# Altium schematic symbol library Schlib1.SchLib: 36 symbols (part 2 of 2)
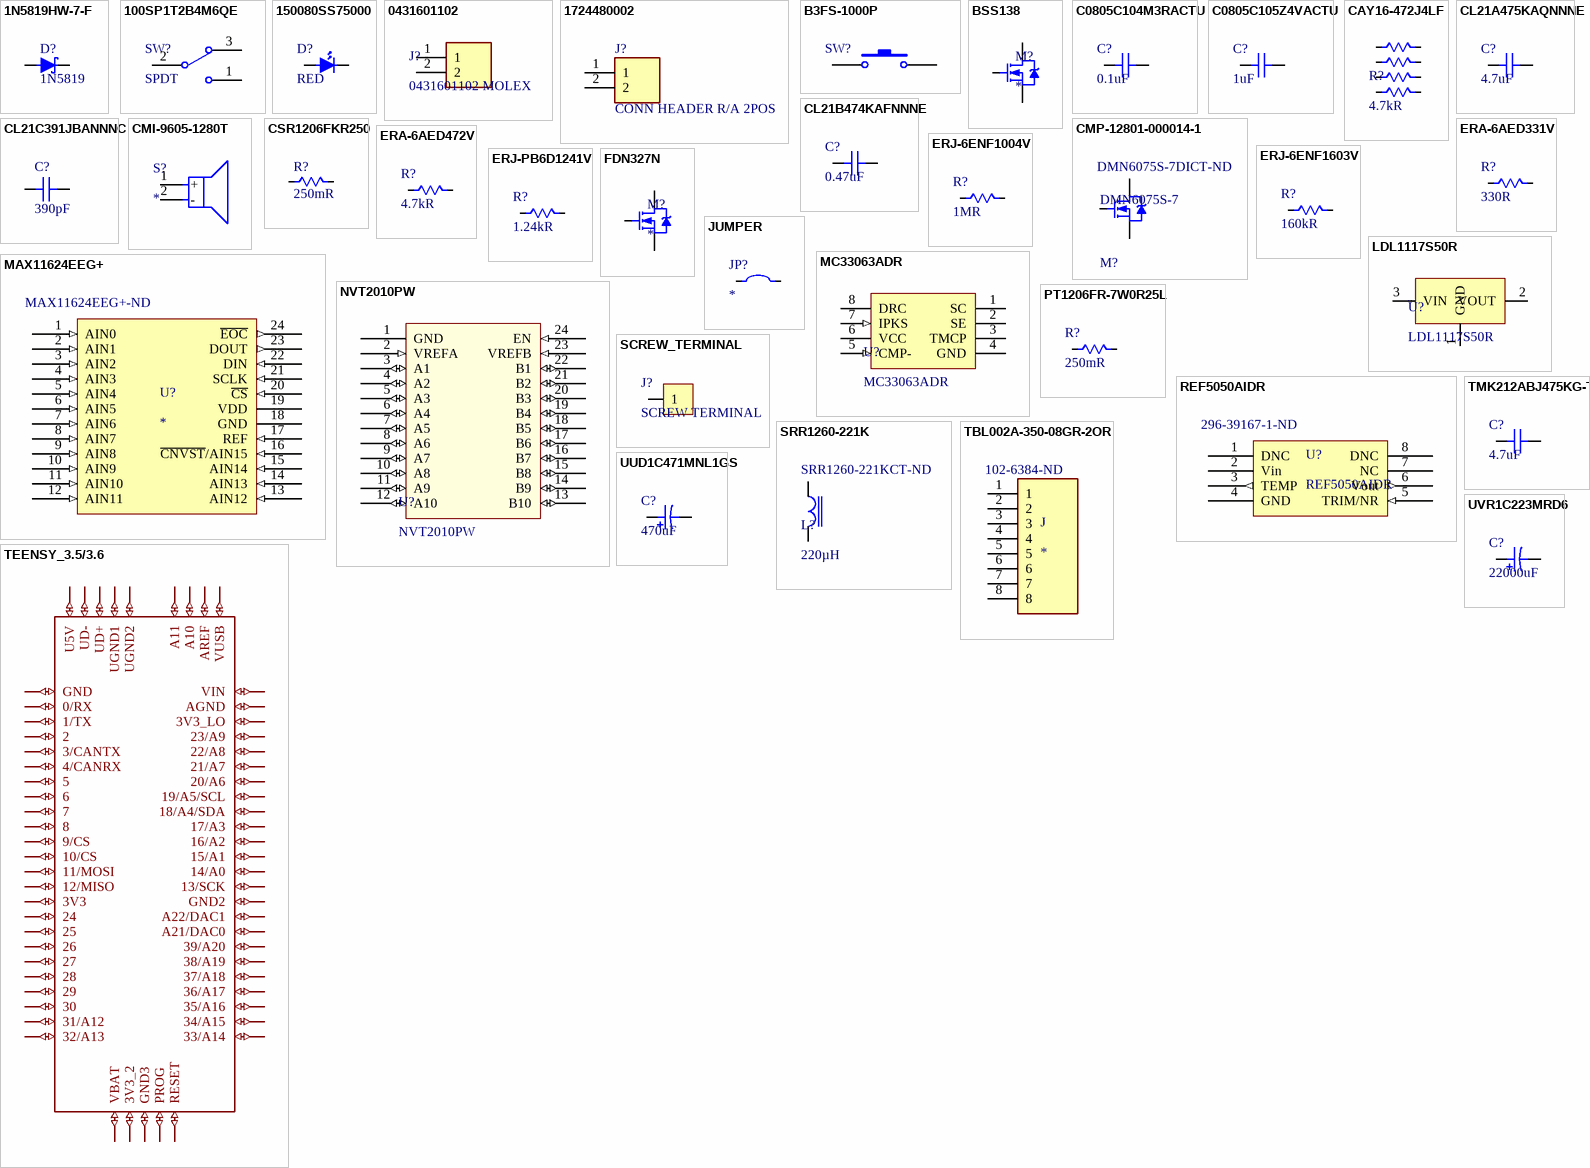
[diagram p1: symbols 1N5819HW-7-F to UVR1C223MRD6]

## ERJ-6ENF1603V
designator R?, comment 160kR
Res Thick Film 0805 160K Ohm 1% 1/8W ±100ppm/°C Molded SMD Punched Carrier T/R; Manufacturer: Panasonic; Manufacturer Part Number: ERJ-6ENF1603V; Max Power Dissipation: 125mW; Voltage Rating: 150V; Supplier 1: Digi-Key; Category: Resistor; Stock 1: 46420; Pricing 1: 1=0.10000, 10=0.07200, 100=0.02750, 1000=0.01210, 2500=0.01045 (USD); Mount: Surface Mount; Case/Package: 0805; Contact Plating: Tin; Case Code (Metric): 2012; Case Code (Imperial): 0805; Min Operating Temperature: -55°C; Max Operating Temperature: 155°C; Composition: Thick Film; Number of Terminations: 2; Termination: SMD/SMT; Military Standard: Not; Temperature Coefficient: 100ppm/°C; Features: Automotive AEC-Q200; Resistance: 160kR; Power Rating: 125mW; Tolerance: 1%; Packaging: Tape and Reel; Package Quantity: 1; Length: 2mm; Height: 0.028inch; Depth: 1.25mm; Width: 0.049inch; Radiation Hardening: No; REACH SVHC: No SVHC; ComponentLink1URL: https://datasheet.ciiva.com/22674/1678782-22674517.pdf?src-supplier=Element14; ComponentLink1Description: https://datasheet.ciiva.com/22674/1678782-22674517.pdf?src-supplier=Element14; ComponentLink2URL: https://datasheet.ciiva.com/46436/1678782-46436469.pdf?src-supplier=Element14; ComponentLink2Description: https://datasheet.ciiva.com/46436/1678782-46436469.pdf?src-supplier=Element14; ComponentLink3URL: https://datasheet.ciiva.com/46436/1678782-46436470.pdf?src-supplier=Element14; ComponentLink3Description: https://datasheet.ciiva.com/46436/1678782-46436470.pdf?src-supplier=Element14; ComponentLink4URL: https://datasheet.ciiva.com/17207/aoa0000ce2-17207337.pdf?src-supplier=Avnet+Europe; ComponentLink4Description: https://datasheet.ciiva.com/17207/aoa0000ce2-17207337.pdf?src-supplier=Avnet+Europe; ComponentLink5URL: https://datasheet.ciiva.com/9185/aoa0000ce2-9185402.pdf?src-supplier=Avnet; ComponentLink5Description: https://datasheet.ciiva.com/9185/aoa0000ce2-9185402.pdf?src-supplier=Avnet; ComponentLink6URL: https://datasheet.ciiva.com/22739/1678782-22739739.pdf?src-supplier=Element14; ComponentLink6Description: https://datasheet.ciiva.com/22739/1678782-22739739.pdf?src-supplier=Element14; ComponentLink7URL: https://datasheet.ciiva.com/24060/aoa0000ce2-24060654.pdf?src-supplier=Mouser; ComponentLink7Description: https://datasheet.ciiva.com/24060/aoa0000ce2-24060654.pdf?src-supplier=Mouser; ComponentLink8URL: http://datasheet.octopart.com/ERJ-6ENF1603V-Panasonic-datasheet-13266541.pdf?src-supplier=Newark; ComponentLink8Description: http://datasheet.octopart.com/ERJ-6ENF1603V-Panasonic-datasheet-13266541.pdf?src-supplier=Newark; ComponentLink9URL: http://datasheet.octopart.com/ERJ-6ENF1603V-Panasonic-datasheet-48891056.pdf?src-supplier=Farnell; ComponentLink9Description: http://datasheet.octopart.com/ERJ-6ENF1603V-Panasonic-datasheet-48891056.pdf?src-supplier=Farnell; ComponentLink10URL: http://datasheet.octopart.com/ERJ-6ENF1603V-Panasonic-datasheet-136608610.pdf?src-supplier=Farnell; ComponentLink10Description: http://datasheet.octopart.com/ERJ-6ENF1603V-Panasonic-datasheet-136608610.pdf?src-supplier=Farnell; ComponentLink11URL: http://datasheet.octopart.com/ERJ6ENF1603V-Panasonic---ECG-datasheet-5313456.pdf?src-supplier=Element14; ComponentLink11Description: http://datasheet.octopart.com/ERJ6ENF1603V-Panasonic---ECG-datasheet-5313456.pdf?src-supplier=Element14; ComponentLink12URL: http://datasheet.octopart.com/ERJ6ENF1603V-Panasonic---ECG-datasheet-8853621.pdf?src-supplier=Element14; ComponentLink12Description: http://datasheet.octopart.com/ERJ6ENF1603V-Panasonic---ECG-datasheet-8853621.pdf?src-supplier=Element14; ComponentLink13URL: http://datasheet.octopart.com/ERJ6ENF1603V-Panasonic---ECG-datasheet-10025800.pdf?src-supplier=Element14; ComponentLink13Description: http://datasheet.octopart.com/ERJ6ENF1603V-Panasonic---ECG-datasheet-10025800.pdf?src-supplier=Element14; ComponentLink14URL: http://datasheet.octopart.com/ERJ-6ENF1603V-Panasonic-datasheet-41391857.pdf?src-supplier=Electro+Sonic; ComponentLink14Description: http://datasheet.octopart.com/ERJ-6ENF1603V-Panasonic-datasheet-41391857.pdf?src-supplier=Electro+Sonic; ComponentLink15URL: http://datasheet.octopart.com/ERJ-6ENF1603V-Panasonic-datasheet-78375410.pdf; ComponentLink15Description: http://datasheet.octopart.com/ERJ-6ENF1603V-Panasonic-datasheet-78375410.pdf; ComponentLink16URL: http://datasheet.octopart.com/ERJ6ENF1603V-Panasonic---ECG-datasheet-15994758.pdf?src-supplier=Farnell; ComponentLink16Description: http://datasheet.octopart.com/ERJ6ENF1603V-Panasonic---ECG-datasheet-15994758.pdf?src-supplier=Farnell; Supplier Part Number 1: P160KCCT-ND
footprint RES_0805_PANASONIC
pins: 1, 2

## ERJ-PB6D1241V
designator R?, comment 1.24kR
RES SMD 1.24K OHM 0.5% 1/4W 0805; Manufacturer: Panasonic; Manufacturer Part Number: ERJ-PB6D1241V; Max Power Dissipation: 250mW; Temperature Coefficient: 50ppm/°C; Supplier 1: Digi-Key; RoHS: Yes; Category: Chip SMD Resistors; Stock 1: 777; Pricing 1: 1=0.23000, 10=0.19100, 25=0.13920, 50=0.10100, 100=0.07480, 250=0.05744, 500=0.04524, 1000=0.03132 (USD); Case/Package: 0805; Case Code (Imperial): 0805; Case Code (Metric): 2012; Min Operating Temperature: -55°C; Max Operating Temperature: 155°C; Features: Automotive AEC-Q200; Tolerance: 0.5%; Packaging: Tape and Reel; Resistance: 1.24kR; Resistor Type: Thick Film; Number of Terminations: 2; Length: 0.079inch; Width: 0.049inch; Height - Seated (Max): 0.028inch; ComponentLink1URL: https://industrial.panasonic.com/sa/system/files/data/download/catalog/id_fixed-resistors_e_2.pdf?src-supplier=Digi-Key; ComponentLink1Description: https://industrial.panasonic.com/sa/system/files/data/download/catalog/id_fixed-resistors_e_2.pdf?src-supplier=Digi-Key; ComponentLink2URL: https://industrial.panasonic.com/cdbs/www-data/pdf/RDM0000/DMM0000COL5.pdf?src-supplier=Digi-Key; ComponentLink2Description: https://industrial.panasonic.com/cdbs/www-data/pdf/RDM0000/DMM0000COL5.pdf?src-supplier=Digi-Key; Supplier Part Number 1: P21029CT-ND
footprint RES_0805_PANASONIC
pins: 1, 2

## FDN327N
designator M?
N-Channel PowerTrench® MOSFET, 1.8 Vgs Specified, 20V, 2A, 70mΩ; Manufacturer: ON Semiconductor; Manufacturer Part Number: FDN327N; Fall Time: 6.5ns; Drain to Source Resistance: 40mR; Power Dissipation: 500mW; Turn-Off Delay Time: 14ns; Threshold Voltage: 700mV; Turn-On Delay Time: 6ns; Element Configuration: Single; Gate to Source Voltage (Vgs): 8V; On-State Resistance: 70MR; Input Capacitance: 423pF; Number of Elements: 1; Supplier 1: Digi-Key; Category: MOSFET; Stock 1: 66807; Pricing 1: 1=0.36000, 10=0.28900, 25=0.26400, 100=0.16580, 500=0.15350, 1000=0.10438 (USD); Mount: Surface Mount; Case/Package: TO-236-3; Number of Pins: 3; Weight: 0.03g; Contact Plating: Tin; Min Operating Temperature: -55°C; Max Operating Temperature: 150°C; Drain to Source Voltage (Vdss): 20V; Continuous Drain Current (ID): 2A; Drain to Source Breakdown Voltage: 20V; Voltage Rating (DC): 20V; Current Rating: 2A; Nominal Vgs: 700mV; Packaging: Tape and Reel; Rise Time: 6.5ns; Max Power Dissipation: 500mW; Package Quantity: 1; Rds On Max: 70mR; Length: 2.92mm; Height: 0.94mm; Width: 1.4mm; Radiation Hardening: No; Lead Free: Lead Free; REACH SVHC: No SVHC; ComponentLink1URL: https://datasheet.ciiva.com/27056/2022975-27056281.pdf?src-supplier=Jameco; ComponentLink1Description: https://datasheet.ciiva.com/27056/2022975-27056281.pdf?src-supplier=Jameco; ComponentLink2URL: https://datasheet.ciiva.com/4439/fdn327n-96081-4439149.pdf?src-supplier=Mouser; ComponentLink2Description: https://datasheet.ciiva.com/4439/fdn327n-96081-4439149.pdf?src-supplier=Mouser; ComponentLink3URL: https://datasheet.ciiva.com/15137/getdatasheetpartid-60206-15137263.pdf?src-supplier=Verical; ComponentLink3Description: https://datasheet.ciiva.com/15137/getdatasheetpartid-60206-15137263.pdf?src-supplier=Verical; ComponentLink4URL: https://datasheet.ciiva.com/6037/89384-6037699.pdf?src-supplier=Farnell; ComponentLink4Description: https://datasheet.ciiva.com/6037/89384-6037699.pdf?src-supplier=Farnell; ComponentLink5URL: https://datasheet.ciiva.com/932/fdn327n-932088.pdf?src-supplier=Digi-Key; ComponentLink5Description: https://datasheet.ciiva.com/932/fdn327n-932088.pdf?src-supplier=Digi-Key; ComponentLink6URL: https://datasheet.ciiva.com/932/fdn327n-932089.pdf?src-supplier=Digi-Key; ComponentLink6Description: https://datasheet.ciiva.com/932/fdn327n-932089.pdf?src-supplier=Digi-Key; ComponentLink7URL: https://datasheet.ciiva.com/932/fdn327n-932090.pdf?src-supplier=Digi-Key; ComponentLink7Description: https://datasheet.ciiva.com/932/fdn327n-932090.pdf?src-supplier=Digi-Key; ComponentLink8URL: https://datasheet.ciiva.com/7968/89384-7968118.pdf?src-supplier=Element14; ComponentLink8Description: https://datasheet.ciiva.com/7968/89384-7968118.pdf?src-supplier=Element14; ComponentLink9URL: https://datasheet.ciiva.com/11175/fdn327n-11175162.pdf?src-supplier=Avnet; ComponentLink9Description: https://datasheet.ciiva.com/11175/fdn327n-11175162.pdf?src-supplier=Avnet; ComponentLink10URL: https://datasheet.ciiva.com/22681/89384-22681882.pdf?src-supplier=Element14; ComponentLink10Description: https://datasheet.ciiva.com/22681/89384-22681882.pdf?src-supplier=Element14; ComponentLink11URL: https://datasheet.ciiva.com/11175/fdn327n-11175164.pdf?src-supplier=Avnet; ComponentLink11Description: https://datasheet.ciiva.com/11175/fdn327n-11175164.pdf?src-supplier=Avnet; ComponentLink12URL: http://datasheet.octopart.com/FDN327N-ON-Semiconductor-datasheet-70648.pdf?src-supplier=Element14; ComponentLink12Description: http://datasheet.octopart.com/FDN327N-ON-Semiconductor-datasheet-70648.pdf?src-supplier=Element14; ComponentLink13URL: http://datasheet.octopart.com/FDN327N-ON-Semiconductor-datasheet-95952848.pdf?src-supplier=Upverter; ComponentLink13Description: http://datasheet.octopart.com/FDN327N-ON-Semiconductor-datasheet-95952848.pdf?src-supplier=Upverter; ComponentLink14URL: http://datasheet.octopart.com/FDN327N-ON-Semiconductor-datasheet-85487651.pdf?src-supplier=ON+Semiconductor; ComponentLink14Description: http://datasheet.octopart.com/FDN327N-ON-Semiconductor-datasheet-85487651.pdf?src-supplier=ON+Semiconductor; ComponentLink15URL: http://datasheet.octopart.com/FDN327N-ON-Semiconductor-datasheet-86693729.pdf?src-supplier=ON+Semiconductor; ComponentLink15Description: http://datasheet.octopart.com/FDN327N-ON-Semiconductor-datasheet-86693729.pdf?src-supplier=ON+Semiconductor; ComponentLink16URL: http://sigma.octopart.com/138895953/technical_drawing/ON-Semiconductor-FDN327N.pdf?src-supplier=Upverter; ComponentLink16Description: http://sigma.octopart.com/138895953/technical_drawing/ON-Semiconductor-FDN327N.pdf?src-supplier=Upverter; ComponentLink17URL: http://datasheet.octopart.com/FDN327N-ON-Semiconductor-datasheet-86688452.pdf?src-supplier=Farnell; ComponentLink17Description: http://datasheet.octopart.com/FDN327N-ON-Semiconductor-datasheet-86688452.pdf?src-supplier=Farnell; ComponentLink18URL: http://datasheet.octopart.com/FDN327N-Fairchild-Semiconductor-datasheet-67621384.pdf?src-supplier=Element14; ComponentLink18Description: http://datasheet.octopart.com/FDN327N-Fairchild-Semiconductor-datasheet-67621384.pdf?src-supplier=Element14; ComponentLink19URL: http://datasheet.octopart.com/FDN327N-Fairchild-Semiconductor-datasheet-68333014.pdf?src-supplier=Farnell; ComponentLink19Description: http://datasheet.octopart.com/FDN327N-Fairchild-Semiconductor-datasheet-68333014.pdf?src-supplier=Farnell; ComponentLink20URL: http://datasheet.octopart.com/FDN327N-Fairchild-Semiconductor-datasheet-68606239.pdf?src-supplier=Farnell; ComponentLink20Description: http://datasheet.octopart.com/FDN327N-Fairchild-Semiconductor-datasheet-68606239.pdf?src-supplier=Farnell; ComponentLink21URL: http://datasheet.octopart.com/FDN327N-ON-Semiconductor-datasheet-130080382.pdf?src-supplier=TME; ComponentLink21Description: http://datasheet.octopart.com/FDN327N-ON-Semiconductor-datasheet-130080382.pdf?src-supplier=TME; ComponentLink22URL: http://datasheet.octopart.com/FDN327N-Fairchild-Semiconductor-datasheet-8863553.pdf?src-supplier=Jameco; ComponentLink22Description: http://datasheet.octopart.com/FDN327N-Fairchild-Semiconductor-datasheet-8863553.pdf?src-supplier=Jameco; ComponentLink23URL: http://sigma.octopart.com/17348131/technical_drawing/Fairchild-Semiconductor-FDN327N.pdf?src-supplier=Fairchild+Semiconductor; ComponentLink23Description: http://sigma.octopart.com/17348131/technical_drawing/Fairchild-Semiconductor-FDN327N.pdf?src-supplier=Fairchild+Semiconductor; ComponentLink24URL: http://datasheet.octopart.com/FDN327N-Fairchild-Semiconductor-datasheet-67809793.pdf?src-supplier=Newark; ComponentLink24Description: http://datasheet.octopart.com/FDN327N-Fairchild-Semiconductor-datasheet-67809793.pdf?src-supplier=Newark; ComponentLink25URL: http://datasheet.octopart.com/FDN327N-Fairchild-Semiconductor-datasheet-67910393.pdf?src-supplier=Newark; ComponentLink25Description: http://datasheet.octopart.com/FDN327N-Fairchild-Semiconductor-datasheet-67910393.pdf?src-supplier=Newark; ComponentLink26URL: http://datasheet.octopart.com/FDN327N-Fairchild-Semiconductor-datasheet-10848486.pdf?src-supplier=IIIC; ComponentLink26Description: http://datasheet.octopart.com/FDN327N-Fairchild-Semiconductor-datasheet-10848486.pdf?src-supplier=IIIC; Supplier Part Number 1: FDN327NCT-ND
footprint SuperSOT-3
pins: D, G, S

## JUMPER
designator JP?
footprint JMP_20MM
pins: 1, 2

## LDL1117S50R
designator U?
LDL1117 Series 1.2 A 5 V High PSRR LDO Linear Voltage Regulator - SOT-223; Manufacturer: STMicroelectronics; Output Type: Fixed; Output Configuration: Positive; Number of Regulators: 1; Max Input Voltage: 18V; Min Output Voltage: 5V; Dropout Voltage: 600mV; Output Current: 1.2A; Quiescent Current: 500uA; Power Supply Rejection Ratio (PSRR): 65dB; Supplier 1: Digi-Key; Manufacturer Part Number: LDL1117S50R; Category: IC; Stock 1: 653; Pricing 1: 1=0.48000, 10=0.36000, 25=0.32440, 100=0.17700, 250=0.17112, 500=0.15340, 1000=0.11800 (USD); Mount: Surface Mount; Case/Package: TO-261-4; Min Operating Temperature: -40°C; Max Operating Temperature: 125°C; Packaging: Tape and Reel; ComponentLink1URL: http://www.farnell.com/datasheets/2259188.pdf?src-supplier=Farnell; ComponentLink1Description: http://www.farnell.com/datasheets/2259188.pdf?src-supplier=Farnell; ComponentLink2URL: http://www.st.com/content/ccc/resource/technical/document/datasheet/group3/0e/5a/00/ca/10/1a/4f/a5/DM00366442/files/DM00366442.pdf/jcr:content/translations/en.DM00366442.pdf?src-supplier=Digi-Key; ComponentLink2Description: http://www.st.com/content/ccc/resource/technical/document/datasheet/group3/0e/5a/00/ca/10/1a/4f/a5/DM00366442/files/DM00366442.pdf/jcr:content/translations/en.DM00366442.pdf?src-supplier=Digi-Key; ComponentLink3URL: http://www.farnell.com/datasheets/2259188.pdf?src-supplier=Newark; ComponentLink3Description: http://www.farnell.com/datasheets/2259188.pdf?src-supplier=Newark; ComponentLink4URL: http://datasheet.octopart.com/LDL1117S50R-STMicroelectronics-datasheet-82510909.pdf?src-supplier=Farnell; ComponentLink4Description: http://datasheet.octopart.com/LDL1117S50R-STMicroelectronics-datasheet-82510909.pdf?src-supplier=Farnell; ComponentLink5URL: http://datasheet.octopart.com/LDL1117S50R-STMicroelectronics-datasheet-93404513.pdf?src-supplier=Ciiva+Crawler; ComponentLink5Description: http://datasheet.octopart.com/LDL1117S50R-STMicroelectronics-datasheet-93404513.pdf?src-supplier=Ciiva+Crawler; Supplier Part Number 1: 497-17240-1-ND
footprint SOT230P700X180-4N (SOT223, 4-Leads, Body 6.50x7.00mm (avg), Pitch 2.30mm, IPC Medium Density)
pins: 1 GND, 2 VOUT, 3 VIN

## MAX11624EEG+
designator U?  Supplier Part Number 1: MAX11624EEG+-ND
GLOVE, POLYAMIDE, L/FREE, PU, SIZE 6 - More Details; Manufacturer: Maxim; Manufacturer Part Number: MAX11624EEG+; Resolution: 10b; Sampling Rate: 300000S/s; Number of A/D Converters: 1; Number of Analog Inputs: 16; Polarity: Unipolar; Signal to Noise Ratio (SNR): 49dB; Number of Bits: 10; Supply Type: Single; Conversion Rate: 300KS/s; Interface: SPI,Serial; Max Power Dissipation: 762mW; Operating Supply Voltage: 5.25V; Supplier 1: Digi-Key; RoHS: Yes; Category: IC; Stock 1: 35; Pricing 1: 1=6.76000, 10=6.11000, 25=5.82520, 100=4.83080, 250=4.82100 (USD); Mount: Surface Mount; Case/Package: QSOP; Number of Pins: 24; Min Operating Temperature: -40°C; Max Operating Temperature: 85°C; Number of Converters: 1; Packaging: Rail/Tube; Number of Channels: 16; Package Quantity: 50; Radiation Hardening: No; ComponentLink1URL: https://datasheet.ciiva.com/16611/max11618-max11625-16611389.pdf?src-supplier=Avnet+Europe; ComponentLink1Description: https://datasheet.ciiva.com/16611/max11618-max11625-16611389.pdf?src-supplier=Avnet+Europe; ComponentLink2URL: https://datasheet.ciiva.com/3039/max11618-max11625-3039027.pdf?src-supplier=Avnet; ComponentLink2Description: https://datasheet.ciiva.com/3039/max11618-max11625-3039027.pdf?src-supplier=Avnet
footprint QSOP24
pins: 1 AIN0 (in), 2 AIN1 (in), 3 AIN2 (in), 4 AIN3 (in), 5 AIN4 (in), 6 AIN5 (in), 7 AIN6 (in), 8 AIN7 (in), 9 AIN8 (in), 10 AIN9 (in), 11 AIN10 (in), 12 AIN11 (in), 13 AIN12 (in), 14 AIN13 (in), 15 AIN14 (in), 16 ~{CNVST}/AIN15 (in) "Active-Low Conversion Start Input/Analog Input 15", 17 REF (in), 18 GND (power), 19 VDD (power), 20 ~{CS} (in), 21 SCLK (in) "Serial Clock Input. Clocks data in and out of the serial interface.", 22 DIN (in) "Serial Data Input. DIN data is latched into the serial interface on the rising edge of SCLK.", 23 DOUT (out) "Serial Data Output. Data is clocked out on the falling edge of SCLK. High impedance when nCS is connected to Vdd.", 24 ~{EOC} (out) "End of Conversion Output. Data is valid after nEOC pulls low."

## MC33063ADR
designator U?
1.5-A peak boost/buck/inverting switching regulator 8-SOIC -40 to 85; Manufacturer: Texas Instruments; Number of Outputs: 1; Output Current: 1.5A; Output Voltage: 40V; Switching Frequency: 100kHz; Min Input Voltage: 3V; Synchronous Rectifier: No; Output Type: Adjustable; Max Output Current: 750mA; Min Output Voltage: 1.25V; Quiescent Current: 4mA; Topology: Flyback; Supplier 1: Digi-Key; Manufacturer Part Number: MC33063ADR; Category: IC; Stock 1: 130093; Pricing 1: 1=0.44000, 10=0.37500, 25=0.35000, 100=0.26000, 250=0.22000, 500=0.21000, 1000=0.15500 (USD); Case/Package: D; Number of Pins: 8; Weight: 0.002561oz; Contact Plating: Gold; Min Operating Temperature: -40°C; Max Operating Temperature: 85°C; Packaging: Tape and Reel; Package Quantity: 1; Max Input Voltage: 40V; Max Output Voltage: 40V; Termination: SMD/SMT; Lead Free: Lead Free; REACH SVHC: No SVHC; ComponentLink1URL: https://datasheet.ciiva.com/41462/001014422-da-01-en-ic-reg-buck-boost-mc33063adr-soic-8-tid-41462284.pdf?src-supplier=Conrad; ComponentLink1Description: https://datasheet.ciiva.com/41462/001014422-da-01-en-ic-reg-buck-boost-mc33063adr-soic-8-tid-41462284.pdf?src-supplier=Conrad; ComponentLink2URL: https://datasheet.ciiva.com/26897/mc33063adr-26897702.pdf?src-supplier=IIIC; ComponentLink2Description: https://datasheet.ciiva.com/26897/mc33063adr-26897702.pdf?src-supplier=IIIC; ComponentLink3URL: https://datasheet.ciiva.com/7993/1862376-7993641.pdf?src-supplier=Element14; ComponentLink3Description: https://datasheet.ciiva.com/7993/1862376-7993641.pdf?src-supplier=Element14; ComponentLink4URL: https://datasheet.ciiva.com/7408/1862376-7408058.pdf?src-supplier=Newark; ComponentLink4Description: https://datasheet.ciiva.com/7408/1862376-7408058.pdf?src-supplier=Newark; ComponentLink5URL: https://datasheet.ciiva.com/46419/1803417-46419179.pdf?src-supplier=Element14; ComponentLink5Description: https://datasheet.ciiva.com/46419/1803417-46419179.pdf?src-supplier=Element14; ComponentLink6URL: https://datasheet.ciiva.com/2025/mc33063a-2025164.pdf?src-supplier=Digi-Key; ComponentLink6Description: https://datasheet.ciiva.com/2025/mc33063a-2025164.pdf?src-supplier=Digi-Key; ComponentLink7URL: https://datasheet.ciiva.com/2025/mc33063a-2025165.pdf?src-supplier=Digi-Key; ComponentLink7Description: https://datasheet.ciiva.com/2025/mc33063a-2025165.pdf?src-supplier=Digi-Key; ComponentLink8URL: https://datasheet.ciiva.com/2025/mc33063a-2025166.pdf?src-supplier=Digi-Key; ComponentLink8Description: https://datasheet.ciiva.com/2025/mc33063a-2025166.pdf?src-supplier=Digi-Key; ComponentLink9URL: https://octopart.com/click/track?ai=8629&ct=datasheets&sig=0128011&at=physicalpart&sid=370&ppid=525094&hlid=24898548&src-supplier=TI+store; ComponentLink9Description: https://octopart.com/click/track?ai=8629&ct=datasheets&sig=0128011&at=physicalpart&sid=370&ppid=525094&hlid=24898548&src-supplier=TI+store; ComponentLink10URL: http://datasheet.octopart.com/MC33063ADR-Texas-Instruments-datasheet-37140769.pdf?src-supplier=Farnell; ComponentLink10Description: http://datasheet.octopart.com/MC33063ADR-Texas-Instruments-datasheet-37140769.pdf?src-supplier=Farnell; ComponentLink11URL: http://datasheet.octopart.com/MC33063ADR-Texas-Instruments-datasheet-149237.pdf?src-supplier=TI+store; ComponentLink11Description: http://datasheet.octopart.com/MC33063ADR-Texas-Instruments-datasheet-149237.pdf?src-supplier=TI+store; ComponentLink12URL: http://datasheet.octopart.com/MC33063ADR-Texas-Instruments-datasheet-149238.pdf?src-supplier=TI+store; ComponentLink12Description: http://datasheet.octopart.com/MC33063ADR-Texas-Instruments-datasheet-149238.pdf?src-supplier=TI+store; ComponentLink13URL: http://datasheet.octopart.com/MC33063ADR-Texas-Instruments-datasheet-149239.pdf?src-supplier=TI+store; ComponentLink13Description: http://datasheet.octopart.com/MC33063ADR-Texas-Instruments-datasheet-149239.pdf?src-supplier=TI+store; ComponentLink14URL: http://datasheet.octopart.com/MC33063ADR-Texas-Instruments-datasheet-149240.pdf?src-supplier=TI+store; ComponentLink14Description: http://datasheet.octopart.com/MC33063ADR-Texas-Instruments-datasheet-149240.pdf?src-supplier=TI+store; ComponentLink15URL: http://datasheet.octopart.com/MC33063ADR-Texas-Instruments-datasheet-149241.pdf?src-supplier=TI+store; ComponentLink15Description: http://datasheet.octopart.com/MC33063ADR-Texas-Instruments-datasheet-149241.pdf?src-supplier=TI+store; ComponentLink16URL: http://datasheet.octopart.com/MC33063ADR-Texas-Instruments-datasheet-10254267.pdf?src-supplier=TI+store; ComponentLink16Description: http://datasheet.octopart.com/MC33063ADR-Texas-Instruments-datasheet-10254267.pdf?src-supplier=TI+store; ComponentLink17URL: http://sigma.octopart.com/49249642/technical_drawing/Texas-Instruments-MC33063ADR.pdf?src-supplier=TI+store; ComponentLink17Description: http://sigma.octopart.com/49249642/technical_drawing/Texas-Instruments-MC33063ADR.pdf?src-supplier=TI+store; ComponentLink18URL: http://datasheet.octopart.com/MC33063ADR-Texas-Instruments-datasheet-12606816.pdf?src-supplier=Farnell; ComponentLink18Description: http://datasheet.octopart.com/MC33063ADR-Texas-Instruments-datasheet-12606816.pdf?src-supplier=Farnell; ComponentLink19URL: http://datasheet.octopart.com/MC33063ADR-Texas-Instruments-datasheet-81639027.pdf?src-supplier=Farnell; ComponentLink19Description: http://datasheet.octopart.com/MC33063ADR-Texas-Instruments-datasheet-81639027.pdf?src-supplier=Farnell; ComponentLink20URL: http://datasheet.octopart.com/MC33063ADR-Texas-Instruments-datasheet-23714746.pdf?src-supplier=Newark; ComponentLink20Description: http://datasheet.octopart.com/MC33063ADR-Texas-Instruments-datasheet-23714746.pdf?src-supplier=Newark; ComponentLink21URL: http://datasheet.octopart.com/MC33063ADR-Texas-Instruments-datasheet-33038661.pdf?src-supplier=Element14; ComponentLink21Description: http://datasheet.octopart.com/MC33063ADR-Texas-Instruments-datasheet-33038661.pdf?src-supplier=Element14; ComponentLink22URL: http://datasheet.octopart.com/MC33063ADR.-Texas-Instruments-datasheet-58444985.pdf?src-supplier=Element14; ComponentLink22Description: http://datasheet.octopart.com/MC33063ADR.-Texas-Instruments-datasheet-58444985.pdf?src-supplier=Element14; ComponentLink23URL: http://datasheet.octopart.com/MC33063ADR.-Texas-Instruments-datasheet-65572232.pdf?src-supplier=Element14; ComponentLink23Description: http://datasheet.octopart.com/MC33063ADR.-Texas-Instruments-datasheet-65572232.pdf?src-supplier=Element14; ComponentLink24URL: http://datasheet.octopart.com/MC33063ADR-Texas-Instruments-datasheet-12052.pdf?src-supplier=Newark; ComponentLink24Description: http://datasheet.octopart.com/MC33063ADR-Texas-Instruments-datasheet-12052.pdf?src-supplier=Newark; ComponentLink25URL: http://datasheet.octopart.com/MC33063ADR-Texas-Instruments-datasheet-137654.pdf?src-supplier=Digi-Key; ComponentLink25Description: http://datasheet.octopart.com/MC33063ADR-Texas-Instruments-datasheet-137654.pdf?src-supplier=Digi-Key; ComponentLink26URL: http://datasheet.octopart.com/MC33063ADR-Texas-Instruments-datasheet-8883959.pdf?src-supplier=Element14; ComponentLink26Description: http://datasheet.octopart.com/MC33063ADR-Texas-Instruments-datasheet-8883959.pdf?src-supplier=Element14; ComponentLink27URL: http://datasheet.octopart.com/MC33063ADR-Texas-Instruments-datasheet-11768196.pdf?src-supplier=Arrow; ComponentLink27Description: http://datasheet.octopart.com/MC33063ADR-Texas-Instruments-datasheet-11768196.pdf?src-supplier=Arrow; ComponentLink28URL: http://datasheet.octopart.com/MC33063ADR-Texas-Instruments-datasheet-14045796.pdf?src-supplier=IIIC; ComponentLink28Description: http://datasheet.octopart.com/MC33063ADR-Texas-Instruments-datasheet-14045796.pdf?src-supplier=IIIC; Supplier Part Number 1: 296-17763-1-ND
footprint SOIC_8 (SOIC, 8-Leads, Body 4.91x3.90mm, Pitch 1.27mm, IPC Medium Density)
pins: 1 SC (oc) "Switch Collector", 2 SE (oe) "Switch Emitter", 3 TMCP (oe) "Timing Capacitor", 4 GND (power), 5 CMP- (in) "Comparator Inverting Input", 6 VCC (power), 7 IPKS (in) "Ipk Sense", 8 DRC (oc) "Drive Collector"

## NVT2010PW
designator U?
10 pin Bidirectional Level Shifter IC; Manufacturer: NXP Semiconductors; Manufacturer Part Number: NVT2010PW,118; Max Supply Voltage: 5.5V; Min Supply Voltage: 1V; Number of Channels: 10; Propagation Delay: 1.5ns; Logic Function: Translator; Output Type: Voltage; Supplier 1: Digi-Key; RoHS: Yes; Category: Interface ICs; Stock 1: 743; Pricing 1: 1=0.97000, 10=0.86400, 25=0.82000, 100=0.67370, 250=0.62972, 500=0.61508 (USD); Mount: Surface Mount; Case/Package: TSSOP; Number of Pins: 24; Min Operating Temperature: -40°C; Max Operating Temperature: 85°C; Packaging: Tape and Reel; Package Quantity: 1; Number of Bits: 10; Turn-On Delay Time: 1.5ns; Series: -; Radiation Hardening: No; RoHS Compliant: Yes; Lead Free: Lead Free; ComponentLink1URL: https://datasheet.ciiva.com/1899/nvt2008-nvt2010-1899186.pdf?src-supplier=Digi-Key; ComponentLink1Description: https://datasheet.ciiva.com/1899/nvt2008-nvt2010-1899186.pdf?src-supplier=Digi-Key; ComponentLink2URL: https://datasheet.ciiva.com/1899/nvt2008-nvt2010-1899187.pdf?src-supplier=Digi-Key; ComponentLink2Description: https://datasheet.ciiva.com/1899/nvt2008-nvt2010-1899187.pdf?src-supplier=Digi-Key; ComponentLink3URL: https://datasheet.ciiva.com/8244/nvt2008-nvt2010-8244294.pdf?src-supplier=Avnet; ComponentLink3Description: https://datasheet.ciiva.com/8244/nvt2008-nvt2010-8244294.pdf?src-supplier=Avnet; ComponentLink4URL: https://datasheet.ciiva.com/1899/nvt2008-nvt2010-1899185.pdf?src-supplier=Digi-Key; ComponentLink4Description: https://datasheet.ciiva.com/1899/nvt2008-nvt2010-1899185.pdf?src-supplier=Digi-Key; Supplier Part Number 1: 568-5299-1-ND
footprint NVT2010
pins: 1 GND (power), 2 VREFA (in), 3 A1 (io), 4 A2 (io), 5 A3 (io), 6 A4 (io), 7 A5 (io), 8 A6 (io), 9 A7 (io), 10 A8 (io), 11 A9 (io), 12 A10 (io), 13 B10 (io), 14 B9 (io), 15 B8 (io), 16 B7 (io), 17 B6 (io), 18 B5 (io), 19 B4 (io), 20 B3 (io), 21 B2 (io), 22 B1 (io), 23 VREFB (in), 24 EN (in)

## PT1206FR-7W0R25L
designator R?, comment 250mR
Res Thick Film 1206 250m Ohm 1% 1/2W ±75ppm/°C Molded SMD Paper T/R; Manufacturer: Yageo; Manufacturer Part Number: PT1206FR-7W0R25L; Max Power Dissipation: 500mW; Supplier 1: Digi-Key; Category: Resistor; Stock 1: 2556; Pricing 1: 1=0.44000, 10=0.33700, 25=0.25640, 50=0.19040, 100=0.14160, 250=0.11960, 500=0.10252, 1000=0.07811 (USD); Case/Package: 1206; Min Operating Temperature: -55°C; Max Operating Temperature: 155°C; Features: Moisture Resistant; Packaging: Tape and Reel; Resistance: 250mR; Composition: Thick Film; Number of Terminations: 2; Tolerance: 1%; Temperature Coefficient: 75ppm/°C; Length: 0.122inch; Height: 0.026inch; Width: 0.063inch; ComponentLink1URL: http://www.mouser.com/ds/2/447/yageodocoutput-1101729.pdf?src-supplier=Mouser; ComponentLink1Description: http://www.mouser.com/ds/2/447/yageodocoutput-1101729.pdf?src-supplier=Mouser; ComponentLink2URL: http://www.yageo.com/exep/pages/download/literatures/R-chip_current%20sensor_20140512.pdf?src-supplier=Digi-Key; ComponentLink2Description: http://www.yageo.com/exep/pages/download/literatures/R-chip_current%20sensor_20140512.pdf?src-supplier=Digi-Key; ComponentLink3URL: http://www.yageo.com/NewPortal/_en/search/productDocs.jsp?YageoPartNumber=PT1206FR-7W0R25L&src-supplier=Digi-Key; ComponentLink3Description: http://www.yageo.com/NewPortal/_en/search/productDocs.jsp?YageoPartNumber=PT1206FR-7W0R25L&src-supplier=Digi-Key; ComponentLink4URL: http://datasheet.octopart.com/PT1206FR-7W0R25L-Yageo-datasheet-86814862.pdf; ComponentLink4Description: http://datasheet.octopart.com/PT1206FR-7W0R25L-Yageo-datasheet-86814862.pdf; Supplier Part Number 1: YAG5802CT-ND
footprint PT1206FR-7W0R25L
pins: 1, 2

## REF5050AIDR
designator U?  Supplier Part Number 1: 296-39167-1-ND
TEXAS INSTRUMENTS - REF5050AIDR - VOLTAGE REF, SERIES, 5V, SOIC-8; Max Input Voltage: 18V; Max Output Current: 10mA; Min Input Voltage: 5.2V; Temperature Coefficient: 3ppm/°C; Quiescent Current: 1mA; Tolerance: 0.1%; Nominal Supply Current: 800uA; Number of Channels: 1; Operating Supply Current: 1.2mA; Output Type: Fixed; Supplier 1: Digi-Key; Manufacturer: Texas Instruments; Manufacturer Part Number: REF5050AIDR; RoHS: Yes; Category: Voltage References; Stock 1: 3640; Pricing 1: 1=2.92000, 10=2.61800, 25=2.47520, 100=2.03500, 250=1.82600, 500=1.76000, 1000=1.46300 (USD); Case/Package: D; Number of Pins: 8; Weight: 0.002677oz; Min Operating Temperature: -40°C; Max Operating Temperature: 125°C; Output Voltage: 5V; Packaging: Tape and Reel; Package Quantity: 2500; Output Current: 10mA; Reference Type: Series; Reference Voltage: 5V; Min Output Voltage: 5V; Radiation Hardening: No; Lead Free: Lead Free; REACH SVHC: No SVHC; ComponentLink1URL: https://datasheet.ciiva.com/4065/43001021s8324725n7713-4065643.pdf?src-supplier=Arrow+Electronics; ComponentLink1Description: https://datasheet.ciiva.com/4065/43001021s8324725n7713-4065643.pdf?src-supplier=Arrow+Electronics; ComponentLink2URL: https://datasheet.ciiva.com/3236/ref5050-3236312.pdf?src-supplier=Avnet; ComponentLink2Description: https://datasheet.ciiva.com/3236/ref5050-3236312.pdf?src-supplier=Avnet; ComponentLink3URL: https://datasheet.ciiva.com/2012/ref5020-2012761.pdf?src-supplier=Digi-Key; ComponentLink3Description: https://datasheet.ciiva.com/2012/ref5020-2012761.pdf?src-supplier=Digi-Key
footprint SOIC_8 (SOIC, 8-Leads, Body 4.91x3.90mm, Pitch 1.27mm, IPC Medium Density)
pins: 1 DNC (hiz), 2 Vin (power), 3 TEMP (out), 4 GND (power), 5 TRIM/NR (in), 6 Vout (out), 7 NC (hiz), 8 DNC (hiz)

## SCREW_TERMINAL
designator J?, comment SCREW TERMINAL
footprint SCREW TERMINAL
pins: 1

## SRR1260-221K
designator L?, comment 220µH  Supplier Part Number 1: SRR1260-221KCT-ND
BOURNS   SRR1260-221K   INDUCTOR, SHIELDED, 220UH, 1.3A, SMD; MF: Bourns - J.W. Miller; Core Material: Ferrite; Material: Steel; Tolerance: 10%; Max DC Current: 1.38A; DC Resistance (DCR): 380mR; Test Frequency: 100kHz; Self Resonant Frequency: 4.2MHz; Q Factor: 22; Value: *; Package: Nonstandard Bourns - J.W. Miller; Availability: Unavailable; SnapEDA_Link: https://www.snapeda.com/parts/SRR1260-221K/Bourns%20-%20J.W.%20Miller/view-part/50181/?ref=snap; MP: SRR1260-221K; Price: None; Category: Inductor; Supplier 1: Digi-Key; Manufacturer: Bourns; Manufacturer Part Number: SRR1260-221K; RoHS: Yes; Stock 1: 17151; Pricing 1: 1=1.09000, 10=1.00800, 25=0.93000, 50=0.77500, 100=0.72850, 250=0.65100 (USD); Mount: Surface Mount; Case/Package: 1260; Number of Pins: 2; Min Operating Temperature: -40°C; Max Operating Temperature: 125°C; Packaging: Tape and Reel; Termination: SMD/SMT; Resistor Type: Wirewound; Package Quantity: 600; Inductance: 220uH; Resistance: 380MR; DC Current: 1.38A; Shielding: Shielded; Current Rating: 1.38A; Saturation Current: 1.3A; RMS Current (Irms): 1.38A; Inductance Tolerance: 10%; Frequency: 4.2MHz; Length: 12.5mm; Width: 12.5mm; Height: 6mm; Depth: 12.8mm; Height - Seated (Max): 0.256inch; Military Standard: Not; REACH SVHC: No SVHC; ComponentLink1URL: https://datasheet.ciiva.com/11800/0900766b80defded-11800204.pdf?src-supplier=RSComponents; ComponentLink1Description: https://datasheet.ciiva.com/11800/0900766b80defded-11800204.pdf?src-supplier=RSComponents; ComponentLink2URL: https://datasheet.ciiva.com/7838/1430852-7838981.pdf?src-supplier=Element14; ComponentLink2Description: https://datasheet.ciiva.com/7838/1430852-7838981.pdf?src-supplier=Element14; ComponentLink3URL: https://datasheet.ciiva.com/1050/srr1260-1050007.pdf?src-supplier=Digi-Key; ComponentLink3Description: https://datasheet.ciiva.com/1050/srr1260-1050007.pdf?src-supplier=Digi-Key; ComponentLink4URL: https://datasheet.ciiva.com/17111/70277056-17111848.pdf?src-supplier=Allied+Electronics; ComponentLink4Description: https://datasheet.ciiva.com/17111/70277056-17111848.pdf?src-supplier=Allied+Electronics; ComponentLink5URL: https://datasheet.ciiva.com/23793/1914016-23793576.pdf?src-supplier=Newark; ComponentLink5Description: https://datasheet.ciiva.com/23793/1914016-23793576.pdf?src-supplier=Newark; ComponentLink6URL: https://datasheet.ciiva.com/17285/srr1260-17285833.pdf?src-supplier=Avnet+Europe; ComponentLink6Description: https://datasheet.ciiva.com/17285/srr1260-17285833.pdf?src-supplier=Avnet+Europe; ComponentLink7URL: https://datasheet.ciiva.com/8517/srr1260-8517134.pdf?src-supplier=Avnet; ComponentLink7Description: https://datasheet.ciiva.com/8517/srr1260-8517134.pdf?src-supplier=Avnet; ComponentLink8URL: https://datasheet.ciiva.com/22618/70796-22618159.pdf?src-supplier=Element14; ComponentLink8Description: https://datasheet.ciiva.com/22618/70796-22618159.pdf?src-supplier=Element14; ComponentLink9URL: https://datasheet.ciiva.com/28679/1430852-28679711.pdf?src-supplier=Element14; ComponentLink9Description: https://datasheet.ciiva.com/28679/1430852-28679711.pdf?src-supplier=Element14; ComponentLink10URL: https://datasheet.ciiva.com/1050/srr1260-1050006.pdf?src-supplier=Digi-Key; ComponentLink10Description: https://datasheet.ciiva.com/1050/srr1260-1050006.pdf?src-supplier=Digi-Key; ComponentLink11URL: https://datasheet.ciiva.com/1050/srr1260-1050008.pdf?src-supplier=Digi-Key; ComponentLink11Description: https://datasheet.ciiva.com/1050/srr1260-1050008.pdf?src-supplier=Digi-Key
footprint INDP125125X600N
pins: 1, 2

## TBL002A-350-08GR-2OR
designator J  Supplier Part Number 1: 102-6384-ND
1~24 Poles, Screwless, 45Â°, 3.50 Pitch, 24~20 (AWG), Terminal Block Connector; MP: TBL002A-350-08GR-2OR; MF: CUI Devices; SnapEDA_Link: https://www.snapeda.com/parts/TBL002A-350-08GR-2OR/CUI%20Devices/view-part/3233590/?ref=snap; Availability: Unavailable; Price: None; Package: None; Value: *; Category: Connector; Supplier 1: Digi-Key
footprint CUI_TBL002A-350-08GR-2OR
pins: 1, 2, 3, 4, 5, 6, 7, 8

## TEENSY_3.5/3.6
designator ?
GateName_1: G$1; SymbolName_1: TEENSY_3.5/3.6; LibraryName: Teensy356; DeviceSetName: TEENSY_3.5/3.6; Package: TEENSY_3.5/3.6
footprint TEENSY_3.5/3.6
pins: 0/RX (io), 1/TX (io), 2 (io), 3/CANTX (io), 3V3 (io), 3V3_2 (io), 3V3_LO (io), 4/CANRX (io), 5 (io), 6 (io), 7 (io), 8 (io), 9/CS (io), 10/CS (io), 11/MOSI (io), 12/MISO (io), 13/SCK (io), 14/A0 (io), 15/A1 (io), 16/A2 (io), 17/A3 (io), 18/A4/SDA (io), 19/A5/SCL (io), 20/A6 (io), 21/A7 (io), 21/DAC0 A21/DAC0 (io), 22/A8 (io), 23/A9 (io), 24 (io), 25 (io), 26 (io), 27 (io), 28 (io), 29 (io), 30 (io), 31/A12 (io), 32/A13 (io), 33/A14 (io), 34/A15 (io), 35/A16 (io), 36/A17 (io), 37/A18 (io), 38/A19 (io), 39/A20 (io), A10 (io), A11 (io), A22/DAC1 (io), AGND (io), AREF (io), GND (io), GND2 (io), GND3 (io), PROG (io), RESET (io), U5V (io), UD+ (io), UD- (io), UGND1 (io), UGND2 (io), VBAT (io), VIN (io), VUSB (io)

## TMK212ABJ475KG-T
designator C?, comment 4.7uF
Cap Ceramic 4.7uF 25V X5R 10% SMD 0805 85°C Embossed T/R; Manufacturer: Taiyo Yuden; Manufacturer Part Number: TMK212ABJ475KG-T; Supplier 1: Digi-Key; Category: Capacitor; Stock 1: 5229; Pricing 1: 1=0.20000, 10=0.14100, 50=0.08000, 100=0.06630, 500=0.04650, 1000=0.03850 (USD); Mount: Surface Mount; Case/Package: Ceramic; Contact Plating: Tin; Min Operating Temperature: -55°C; Max Operating Temperature: 85°C; Dielectric: X5R; Termination: Wraparound; Capacitance: 4.7uF; Tolerance: 10%; Length: 2mm; ComponentLink1URL: http://www.yuden.co.jp/productdata/catalog/en/mlcc_all_e.pdf?src-supplier=Avnet+Asia; ComponentLink1Description: http://www.yuden.co.jp/productdata/catalog/en/mlcc_all_e.pdf?src-supplier=Avnet+Asia; ComponentLink2URL: http://datasheet.octopart.com/TMK212ABJ475KG-T-Taiyo-Yuden-datasheet-138738940.pdf?src-supplier=Taiyo+Yuden+SCT; ComponentLink2Description: http://datasheet.octopart.com/TMK212ABJ475KG-T-Taiyo-Yuden-datasheet-138738940.pdf?src-supplier=Taiyo+Yuden+SCT; Supplier Part Number 1: 587-5478-1-ND
footprint CAP_0805 (Chip Capacitor, 2-Leads, Body 2.05x1.30mm, IPC Medium Density)
pins: 1, 2

## UUD1C471MNL1GS
designator C?, comment 470uF
NICHICON   UUD1C471MNL1GS   CAP, ALU ELEC, 470UF, 16V, SMD; Dielectric Material: Aluminium; Tolerance: 20%; Leakage Current: 3uA; Ripple Current: 450mA; Life (Hours): 5000Hour; Dissipation Factor: 0.2%; Impedance: 170mR; Lead Diameter: 1.1mm; Supplier 1: Digi-Key; Manufacturer: Nichicon; Manufacturer Part Number: UUD1C471MNL1GS; RoHS: Yes; Category: Capacitor; Stock 1: 11602; Pricing 1: 1=0.69000, 10=0.50800, 25=0.43560, 100=0.34850, 250=0.31948 (USD); Case/Package: Radial; Number of Pins: 2; Contact Plating: Tin; Min Operating Temperature: -55°C; Max Operating Temperature: 105°C; Voltage Rating (DC): 16V; Capacitance: 470uF; Packaging: Tape and Reel; Package Quantity: 500; Voltage Rating: 16V; Termination: SMD/SMT; Voltage: 16V; Ripple Current (AC): 450mA; Diameter: 8mm; Length: 10mm; Height: 10mm; Height - Seated (Max): 0.394inch; Lead Pitch: 3.1mm; Radiation Hardening: No; REACH SVHC: No SVHC; Lead Free: Lead Free; ComponentLink1URL: https://datasheet.ciiva.com/11781/0900766b80fa39e7-11781894.pdf?src-supplier=RSComponents; ComponentLink1Description: https://datasheet.ciiva.com/11781/0900766b80fa39e7-11781894.pdf?src-supplier=RSComponents; ComponentLink2URL: https://datasheet.ciiva.com/97/e-ud-97896.pdf?src-supplier=Digi-Key; ComponentLink2Description: https://datasheet.ciiva.com/97/e-ud-97896.pdf?src-supplier=Digi-Key; ComponentLink3URL: https://datasheet.ciiva.com/7781/66055-7781448.pdf?src-supplier=Element14; ComponentLink3Description: https://datasheet.ciiva.com/7781/66055-7781448.pdf?src-supplier=Element14; ComponentLink4URL: https://datasheet.ciiva.com/97/e-ud-97897.pdf?src-supplier=Digi-Key; ComponentLink4Description: https://datasheet.ciiva.com/97/e-ud-97897.pdf?src-supplier=Digi-Key; ComponentLink5URL: https://datasheet.ciiva.com/22693/66055-22693551.pdf?src-supplier=Element14; ComponentLink5Description: https://datasheet.ciiva.com/22693/66055-22693551.pdf?src-supplier=Element14; ComponentLink6URL: https://datasheet.ciiva.com/97/e-ud-97898.pdf?src-supplier=Digi-Key; ComponentLink6Description: https://datasheet.ciiva.com/97/e-ud-97898.pdf?src-supplier=Digi-Key; ComponentLink7URL: https://datasheet.ciiva.com/11685/e-ud-11685293.pdf?src-supplier=Avnet; ComponentLink7Description: https://datasheet.ciiva.com/11685/e-ud-11685293.pdf?src-supplier=Avnet; ComponentLink8URL: https://datasheet.ciiva.com/16502/e-ud-16502751.pdf?src-supplier=Future+Electronics; ComponentLink8Description: https://datasheet.ciiva.com/16502/e-ud-16502751.pdf?src-supplier=Future+Electronics; Supplier Part Number 1: 493-2266-1-ND
footprint UUD1C471MNL1GS
pins: 1, 2

## UVR1C223MRD6
designator C?, comment 22000uF
Cap Aluminum 22000uF 16V 20% (25 X 40mm) Radial 12.5mm 4000mA 2000 hr 85°C Bulk; Manufacturer: Nichicon; Manufacturer Part Number: UVR1C223MRD6; Dielectric Material: Aluminium; Capacitance: 22mF; Ripple Current: 4A; Dissipation Factor: 0.2%; Leakage Current: 10.56mA; Life (Hours): 2000Hour; Lead Diameter: 1mm; Supplier 1: Digi-Key; Category: Capacitor; Stock 1: 153; Pricing 1: 1=3.85000, 10=3.46700, 50=3.00440, 100=2.61910, 500=2.15694, 1000=2.00287, 2500=1.96436, 5000=1.92584 (USD); Mount: Through Hole; Case/Package: Radial; Number of Pins: 2; Contact Plating: Tin; Min Operating Temperature: -40°C; Max Operating Temperature: 85°C; Package Quantity: 180; Packaging: Bulk; Tolerance: 20%; Voltage Rating: 16V; Termination: Radial; Voltage Rating (DC): 16V; Diameter: 25mm; Length: 40mm; Height: 40mm; Lead Pitch: 12.5mm; Height - Seated (Max): 1.575inch; Radiation Hardening: No; Lead Free: Lead Free; ComponentLink1URL: https://datasheet.ciiva.com/17515/e-vr-17515877.pdf?src-supplier=Avnet+Europe; ComponentLink1Description: https://datasheet.ciiva.com/17515/e-vr-17515877.pdf?src-supplier=Avnet+Europe; ComponentLink2URL: https://datasheet.ciiva.com/118/e-vr-118733.pdf?src-supplier=Digi-Key; ComponentLink2Description: https://datasheet.ciiva.com/118/e-vr-118733.pdf?src-supplier=Digi-Key; ComponentLink3URL: http://datasheet.octopart.com/UVR1C223MRD6-Nichicon-datasheet-2149.pdf?src-supplier=Digi-Key; ComponentLink3Description: http://datasheet.octopart.com/UVR1C223MRD6-Nichicon-datasheet-2149.pdf?src-supplier=Digi-Key; ComponentLink4URL: http://datasheet.octopart.com/UVR1C223MRD6-Nichicon-datasheet-12518647.pdf?src-supplier=Newark; ComponentLink4Description: http://datasheet.octopart.com/UVR1C223MRD6-Nichicon-datasheet-12518647.pdf?src-supplier=Newark; ComponentLink5URL: http://datasheet.octopart.com/UVR1C223MRD6-Nichicon-datasheet-24896455.pdf?src-supplier=TME; ComponentLink5Description: http://datasheet.octopart.com/UVR1C223MRD6-Nichicon-datasheet-24896455.pdf?src-supplier=TME; ComponentLink6URL: http://datasheet.octopart.com/UVR1C223MRD6-Nichicon-datasheet-41169141.pdf?src-supplier=Newark; ComponentLink6Description: http://datasheet.octopart.com/UVR1C223MRD6-Nichicon-datasheet-41169141.pdf?src-supplier=Newark; ComponentLink7URL: http://datasheet.octopart.com/UVR1C223MRD6-Nichicon-datasheet-58177256.pdf?src-supplier=Newark; ComponentLink7Description: http://datasheet.octopart.com/UVR1C223MRD6-Nichicon-datasheet-58177256.pdf?src-supplier=Newark; Supplier Part Number 1: 493-1054-ND
footprint UVR1C223MRD6_BENT (UVR1C223MRD6)
footprint UVR1C223MRD6_UPRIGHT (UVR1C223MRD6)
footprint UVR1C223MRD6_BENT_F (UVR1C223MRD6)
pins: 1, 2